# Altium schematic symbol library Netronix.SchLib: 1 symbol
Pins are listed as number, name and electrical type; pins without a type are passive.

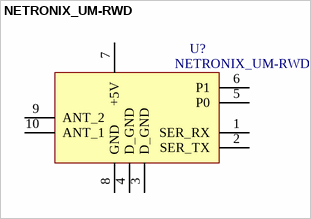
[diagram p0: symbol NETRONIX_UM-RWD]

## NETRONIX_UM-RWD
designator U?
Value: NETRONIX_UM-RWD
footprint NETRONIX_UM-RWD
pins: 1 SER_RX, 2 SER_TX, 3 D_GND, 4 D_GND, 5 P0, 6 P1, 7 +5V, 8 GND, 9 ANT_2, 10 ANT_1